# Altium schematic symbol library 核心板元件库.SchLib: 1 symbol
Pins are listed as number, name and electrical type; pins without a type are passive.

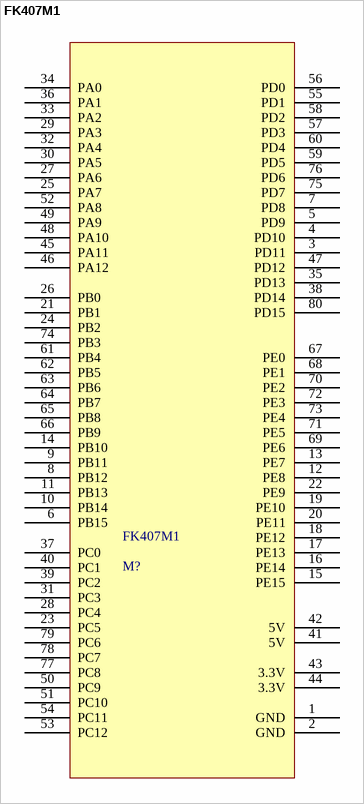
[diagram p0: symbol FK407M1]

## FK407M1
designator FK407M1, comment M?
footprint FK407M1
pins: 1 GND, 2 GND, 3 PD11, 4 PD10, 5 PD9, 6 PB15, 7 PD8, 8 PB12, 9 PB11, 10 PB14, 11 PB13, 12 PE8, 13 PE7, 14 PB10, 15 PE15, 16 PE14, 17 PE13, 18 PE12, 19 PE10, 20 PE11, 21 PB1, 22 PE9, 23 PC5, 24 PB2, 25 PA7, 26 PB0, 27 PA6, 28 PC4, 29 PA3, 30 PA5, 31 PC3, 32 PA4, 33 PA2, 34 PA0, 35 PD13, 36 PA1, 37 PC0, 38 PD14, 39 PC2, 40 PC1, 41 5V, 42 5V, 43 3.3V, 44 3.3V, 45 PA11, 46 PA12, 47 PD12, 48 PA10, 49 PA9, 50 PC9, 51 PC10, 52 PA8, 53 PC12, 54 PC11, 55 PD1, 56 PD0, 57 PD3, 58 PD2, 59 PD5, 60 PD4, 61 PB4, 62 PB5, 63 PB6, 64 PB7, 65 PB8, 66 PB9, 67 PE0, 68 PE1, 69 PE6, 70 PE2, 71 PE5, 72 PE3, 73 PE4, 74 PB3, 75 PD7, 76 PD6, 77 PC8, 78 PC7, 79 PC6, 80 PD15